# EAGLE library part ADE-1HW (library NewSDR)
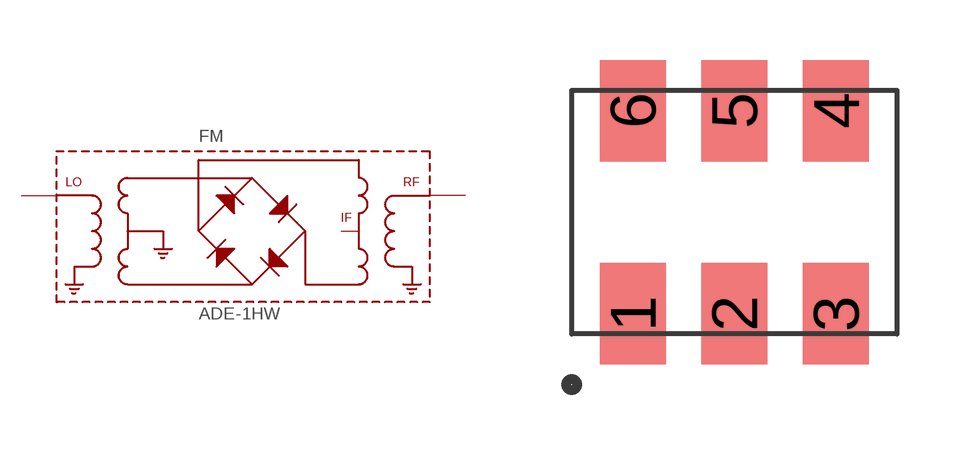
[diagram p103: symbol with the pads of ADE-1HW; footprint ADE-1HW]

Designator prefix FM

## ADE-1HW  [ADE-1HW]
1  GND1  sup
2  IF  in
3  RF  out
4  GND2  sup
5  GND3  sup
6  LO  in

## Footprint ADE-1HW (pad centres in mm)
Footprint for MiniCircuits Frequency Mixer ADE-1HW NOTE: See datasheet for important layout information!!!!
smd 1.651 x 2.54: 1 -2.54,-2.54; 2 0,-2.54; 3 2.54,-2.54; 4 2.54,2.54; 5 0,2.54; 6 -2.54,2.54